# Altium footprint library 1025-7.PcbLib: 1 footprints
Each footprint in its own frame and in the unit in brackets; x right, y up, seen from the top. Pads: shape width x height; smd on the part's side, far side on the other; paste and mask are expansions set on the pad; w line width, h text height; cw(c..) or ccw(c..) is an arc to the next point about the centre after c.
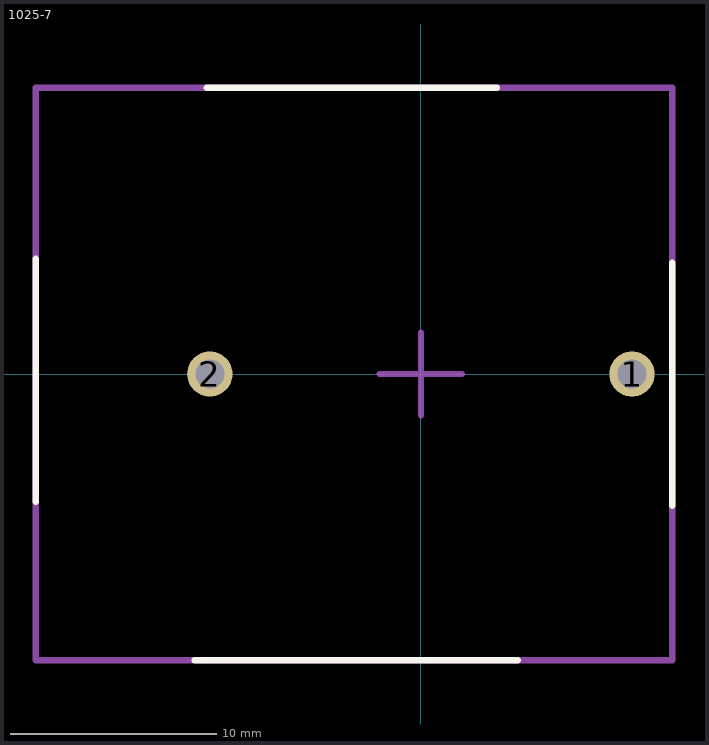
[diagram p0: the footprint, top view; thin cyan lines are the x and y axes]

## 1025-7 [mm]
pads (2):
  round 2.2 hole 1.4 mask+0: 1(10.25,0) 2(-10.25,0)
Top Overlay:
  lines w0.3: -18.7,-6.2 -18.7,5.6 ; -11,-13.9 4.7,-13.9 ; -10.4,13.9 3.7,13.9 ; 12.2,-6.4 12.2,5.4
Mechanical 13:
  lines w0.3: -18.7,-13.9 -18.7,13.9 12.2,13.9 12.2,-13.9 -18.7,-13.9
Mechanical 15:
  lines w0.3: -2,0 0,0 ; 0,-2 0,0 ; 0,2 0,0 ; 2,0 0,0
3D body "1025-7.step": height 13.25, standoff -4.08, extent -18.781,-13.861 12.181,13.9